# Altium footprint library 22uH-Inductor.PcbLib: 1 footprints
Each footprint in its own frame and in the unit in brackets; x right, y up, seen from the top. Pads: shape width x height; smd on the part's side, far side on the other; paste and mask are expansions set on the pad; w line width, h text height; cw(c..) or ccw(c..) is an arc to the next point about the centre after c.
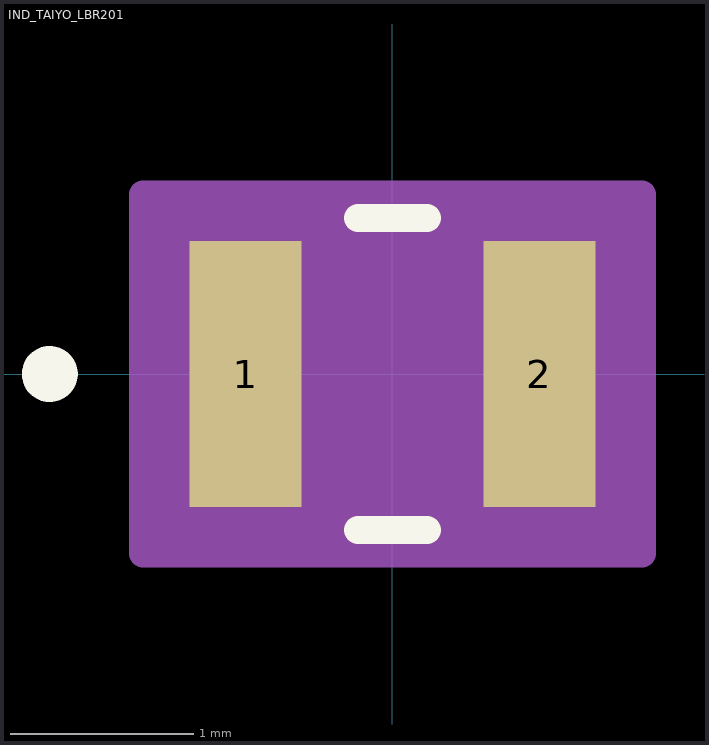
[diagram p0: the footprint, top view; thin cyan lines are the x and y axes]

## IND_TAIYO_LBR201 [mil]
pads (2):
  rect 24x57 smd paste+0 mask+0: 1(-31.5,0) 2(31.5,0)
Top Overlay:
  circle w6: c-73.5,0 r3
  lines w6: -7.39,-33.5 7.39,-33.5 ; -7.39,33.5 7.39,33.5
Mechanical 13:
  circle w0: c-40.5,0 r3
  lines w1: -43.5,-28.5 -43.5,28.5 43.5,28.5 43.5,-28.5 -43.5,-28.5
Mechanical 15:
  region: -53.5,-38.5 -53.5,38.5 53.5,38.5 53.5,-38.5
  lines w6: -53.5,-38.5 53.5,-38.5 53.5,38.5 -53.5,38.5 -53.5,-38.5
3D body "IND_TAIYO_LBR2012.stp": height 57.01, standoff 0, extent -43.5,-28.5 43.51,28.51
3D body: height 10, standoff 0, extent 0,0 10,10